# Altium footprint library seeed.PcbLib: 46 footprints (part 1 of 3)
Each footprint in its own frame and in the unit in brackets; x right, y up, seen from the top. Pads: shape width x height; smd on the part's side, far side on the other; paste and mask are expansions set on the pad; w line width, h text height; cw(c..) or ccw(c..) is an arc to the next point about the centre after c.
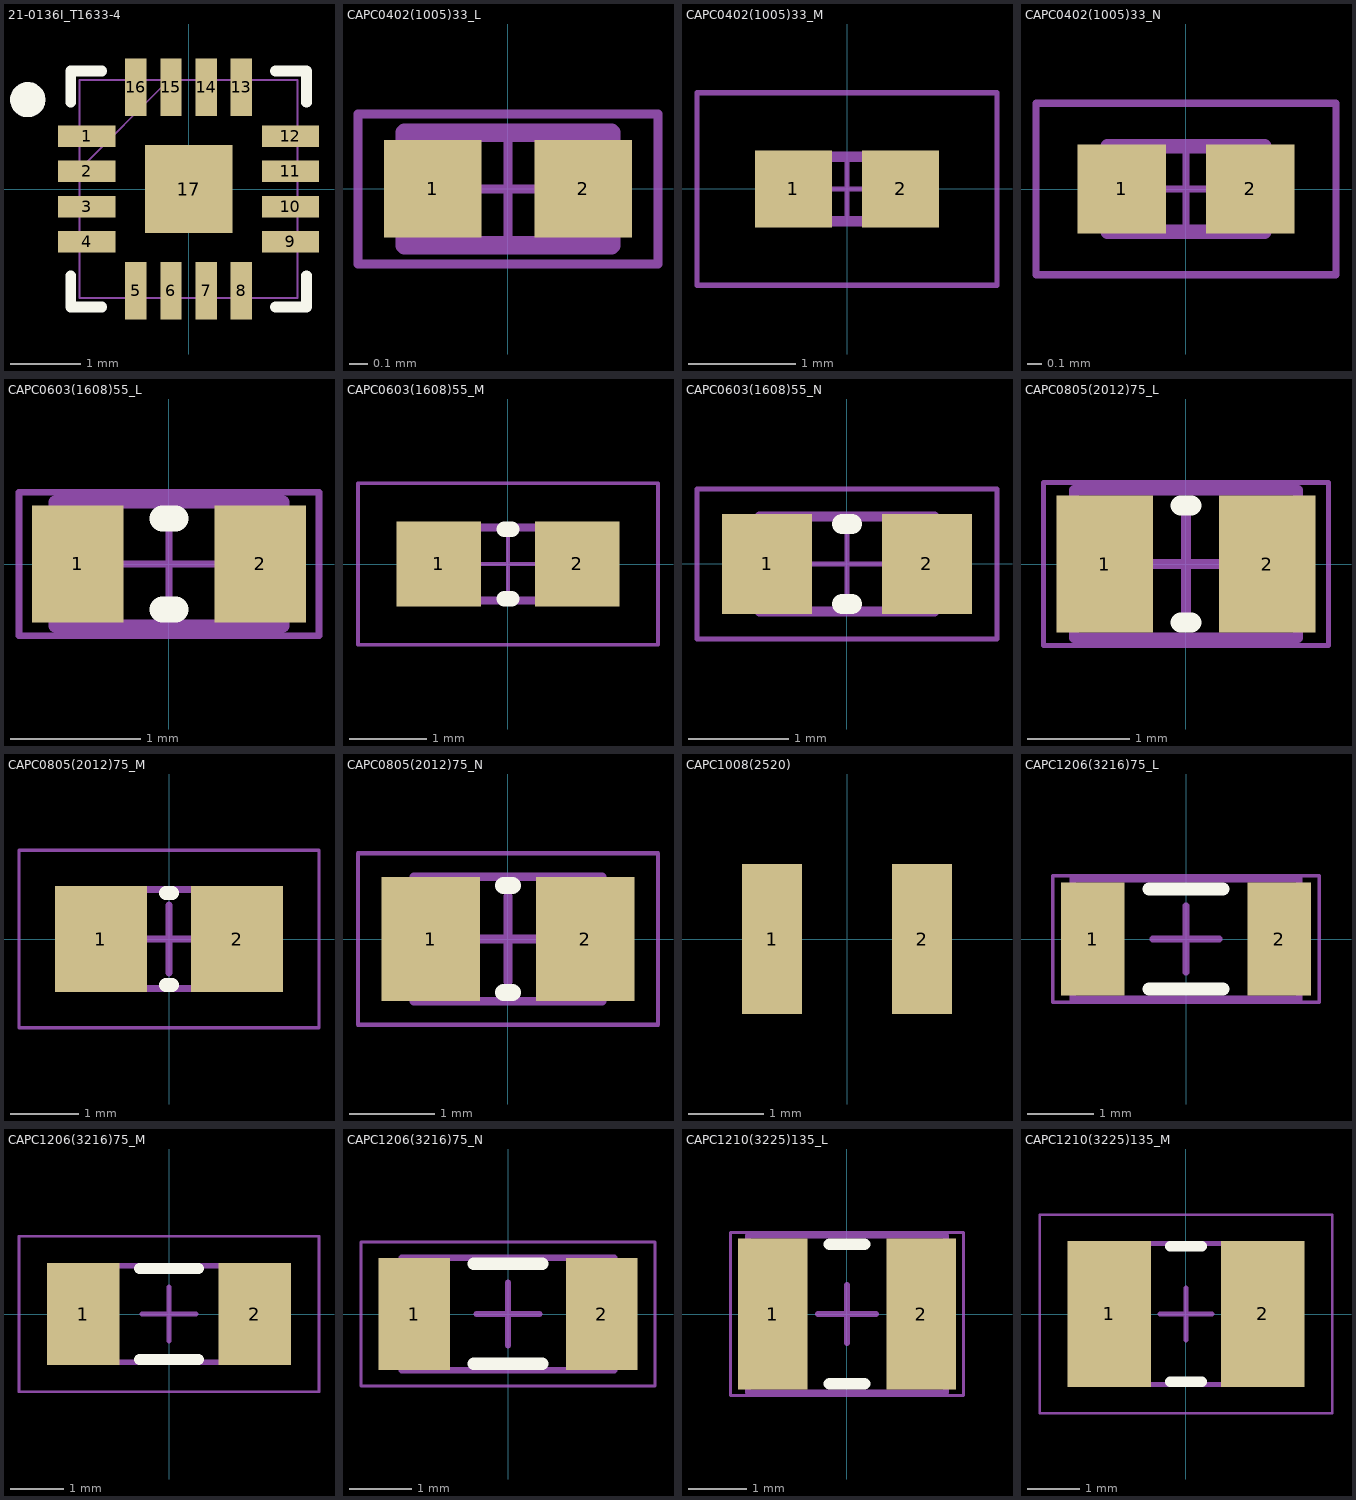
[diagram p0: the footprints below, top view; thin cyan lines are the x and y axes]

## 21-0136I_T1633-4 [mil]
pads (17):
  rect 32x12 smd paste+0 mask+0: 1(-57,29.53) 2(-57,9.84) 3(-57,-9.84) 4(-57,-29.53) 9(57,-29.53) 10(57,-9.84) 11(57,9.84) 12(57,29.53)
  rect 12x32 smd paste+0 mask+0: 5(-29.53,-57) 6(-9.84,-57) 7(9.84,-57) 8(29.53,-57) 13(29.53,57) 14(9.84,57) 15(-9.84,57) 16(-29.53,57)
  rect 49x49 smd paste-24 mask+0: 17(0,0)
Top Overlay:
  circle w9.84: c-90,50 r4.92
  lines w6: -66,-48.63 -66,-66 -48.63,-66 ; -66,48.63 -66,66 -48.63,66 ; 48.63,-66 66,-66 66,-48.63 ; 48.63,66 66,66 66,48.63
Top Paste:
  region: 24.5,24.5 -24.5,24.5 -24.5,-24.5 24.5,-24.5
Mechanical 13:
  lines w1: -61,11 -11,61 ; -61,-61 61,-61 61,61 -61,61 -61,-61 ; -61,-35.53 -61,-23.53 -61,-35.53 ; -61,-15.84 -61,-3.84 -61,-15.84 ; -61,3.84 -61,15.84 -61,3.84 ; -61,23.53 -61,35.53 -61,23.53 ; -35.53,-61 -23.53,-61 -35.53,-61 ; -35.53,61 -23.53,61 -35.53,61 ; -15.84,-61 -3.84,-61 -15.84,-61 ; -15.84,61 -3.84,61 -15.84,61 ; 3.84,-61 15.84,-61 3.84,-61 ; 3.84,61 15.84,61 3.84,61 ; 23.53,-61 35.53,-61 23.53,-61 ; 23.53,61 35.53,61 23.53,61 ; 61,-35.53 61,-23.53 61,-35.53 ; 61,-15.84 61,-3.84 61,-15.84 ; 61,3.84 61,15.84 61,3.84 ; 61,23.53 61,35.53 61,23.53
3D body: height 10, standoff 0, extent 0,0 10,10
3D body "21-0136I_T1633-4.step": height 32.09, standoff 0, extent -60.98,-60.98 60.99,60.99

## CAPC0402(1005)33_L [mm] "Chip Capacitor, Body 1.0x0.5mm, Height 0.33mm, IPC High Density"
height 0.33
pads (2):
  rect 0.52x0.52 smd mask+0.05: 1(-0.4,0) 2(0.4,0)
Mechanical 13:
  lines w0.1: -0.55,-0.3 -0.55,0.3 0.55,0.3 0.55,-0.3 -0.55,-0.3
Mechanical 15:
  lines w0.05: -0.3,0 0.3,0 ; 0,-0.3 0,0.3 ; -0.8,-0.4 -0.8,0.4 0.8,0.4 0.8,-0.4 -0.8,-0.4
3D body "CAPC-0402-T0.55-BN.stp": height 0.55, standoff 0, extent -0.525,-0.275 0.525,0.275

## CAPC0402(1005)33_M [mm] "Chip Capacitor, Body 1.0x0.5mm, Height 0.33mm, IPC Low Density"
height 0.33
pads (2):
  rect 0.72x0.72 smd: 1(-0.5,0) 2(0.5,0)
Mechanical 13:
  lines w0.1: -0.55,-0.3 0.55,-0.3 0.55,0.3 -0.55,0.3 -0.55,-0.3
Mechanical 15:
  lines w0.05: -0.3,0 0.3,0 ; 0,-0.3 0,0.3 ; -1.4,-0.9 1.4,-0.9 1.4,0.9 -1.4,0.9 -1.4,-0.9
3D body "CAPC-0402-T0.55-BN.stp": height 0.55, standoff 0, extent -0.525,-0.275 0.525,0.275

## CAPC0402(1005)33_N [mm] "Chip Capacitor, Body 1.0x0.5mm, Height 0.33mm, IPC Medium Density"
height 0.33
pads (2):
  rect 0.62x0.62 smd: 1(-0.45,0) 2(0.45,0)
Mechanical 13:
  lines w0.1: -0.55,-0.3 -0.55,0.3 0.55,0.3 0.55,-0.3 -0.55,-0.3
Mechanical 15:
  lines w0.05: -0.3,0 0.3,0 ; 0,-0.3 0,0.3 ; -1.05,-0.6 -1.05,0.6 1.05,0.6 1.05,-0.6 -1.05,-0.6
3D body "CAPC-0402-T0.55-BN.stp": height 0.55, standoff 0, extent -0.525,-0.275 0.525,0.275

## CAPC0603(1608)55_L [mm] "Chip Capacitor, Body 1.6x0.8mm, Height 0.55mm, IPC High Density"
height 0.55
pads (2):
  rect 0.7x0.9 smd: 1(-0.7,0) 2(0.7,0)
Top Overlay:
  lines w0.2: -0.05,-0.35 0.05,-0.35 ; -0.05,0.35 0.05,0.35
Mechanical 13:
  lines w0.1: -0.875,-0.475 -0.875,0.475 0.875,0.475 0.875,-0.475 -0.875,-0.475
Mechanical 15:
  lines w0.05: -0.475,0 0.475,0 ; 0,-0.475 0,0.475 ; -1.15,-0.55 -1.15,0.55 1.15,0.55 1.15,-0.55 -1.15,-0.55
3D body "CAPC-0603-T0.9-BN.stp": height 0.9, standoff 0, extent -0.85,-0.45 0.85,0.45

## CAPC0603(1608)55_M [mm] "Chip Capacitor, Body 1.6x0.8mm, Height 0.55mm, IPC Low Density"
height 0.55
pads (2):
  rect 1.1x1.1 smd: 1(-0.9,0) 2(0.9,0)
Top Overlay:
  lines w0.2: -0.05,-0.45 0.05,-0.45 ; -0.05,0.45 0.05,0.45
Mechanical 13:
  lines w0.1: -0.875,-0.475 0.875,-0.475 0.875,0.475 -0.875,0.475 -0.875,-0.475
Mechanical 15:
  lines w0.05: -0.475,0 0.475,0 ; 0,-0.475 0,0.475 ; -1.95,-1.05 1.95,-1.05 1.95,1.05 -1.95,1.05 -1.95,-1.05
3D body "CAPC-0603-T0.9-BN.stp": height 0.9, standoff 0, extent -0.85,-0.45 0.85,0.45

## CAPC0603(1608)55_N [mm] "Chip Capacitor, Body 1.6x0.8mm, Height 0.55mm, IPC Medium Density"
height 0.55
pads (2):
  rect 0.9x1 smd: 1(-0.8,0) 2(0.8,0)
Top Overlay:
  lines w0.2: -0.05,-0.4 0.05,-0.4 ; -0.05,0.4 0.05,0.4
Mechanical 13:
  lines w0.1: -0.875,-0.475 -0.875,0.475 0.875,0.475 0.875,-0.475 -0.875,-0.475
Mechanical 15:
  lines w0.05: -0.475,0 0.475,0 ; 0,-0.475 0,0.475 ; -1.5,-0.75 -1.5,0.75 1.5,0.75 1.5,-0.75 -1.5,-0.75
3D body "CAPC-0603-T0.9-BN.stp": height 0.9, standoff 0, extent -0.85,-0.45 0.85,0.45

## CAPC0805(2012)75_L [mm] "Chip Capacitor, Body 2.0x1.2mm, Height 0.75mm, IPC High Density"
height 0.75
pads (2):
  rect 0.95x1.35 smd: 1(-0.8,0) 2(0.8,0)
Top Overlay:
  lines w0.2: -0.05,-0.575 0.05,-0.575 ; -0.05,0.575 0.05,0.575
Mechanical 13:
  lines w0.1: -1.1,-0.725 -1.1,0.725 1.1,0.725 1.1,-0.725 -1.1,-0.725
Mechanical 15:
  lines w0.05: -1.4,-0.8 -1.4,0.8 1.4,0.8 1.4,-0.8 -1.4,-0.8
  lines w0.1: -0.5,0 0.5,0 ; 0,-0.5 0,0.5
3D body "CAPC-0805-T0.75-BN.stp": height 0.75, standoff 0, extent -1.05,-0.675 1.05,0.675

## CAPC0805(2012)75_M [mm] "Chip Capacitor, Body 2.0x1.2mm, Height 0.75mm, IPC Low Density"
height 0.75
pads (2):
  rect 1.35x1.55 smd: 1(-1,0) 2(1,0)
Top Overlay:
  lines w0.2: -0.05,-0.675 0.05,-0.675 ; -0.05,0.675 0.05,0.675
Mechanical 13:
  lines w0.1: -1.1,-0.725 -1.1,0.725 1.1,0.725 1.1,-0.725 -1.1,-0.725
Mechanical 15:
  lines w0.05: -2.2,-1.3 -2.2,1.3 2.2,1.3 2.2,-1.3 -2.2,-1.3
  lines w0.1: -0.5,0 0.5,0 ; 0,-0.5 0,0.5
3D body "CAPC-0805-T0.75-BN.stp": height 0.75, standoff 0, extent -1.05,-0.675 1.05,0.675

## CAPC0805(2012)75_N [mm] "Chip Capacitor, Body 2.0x1.2mm, Height 0.75mm, IPC Medium Density"
height 0.75
pads (2):
  rect 1.15x1.45 smd: 1(-0.9,0) 2(0.9,0)
Top Overlay:
  lines w0.2: -0.05,-0.625 0.05,-0.625 ; -0.05,0.625 0.05,0.625
Mechanical 13:
  lines w0.1: -1.1,-0.725 1.1,-0.725 1.1,0.725 -1.1,0.725 -1.1,-0.725
Mechanical 15:
  lines w0.05: -1.75,-1 1.75,-1 1.75,1 -1.75,1 -1.75,-1
  lines w0.1: -0.5,0 0.5,0 ; 0,-0.5 0,0.5
3D body "CAPC-0805-T0.75-BN.stp": height 0.75, standoff 0, extent -1.05,-0.675 1.05,0.675

## CAPC1008(2520) [mm] "1008"
height 1.2
pads (2):
  rect 0.8x2 smd: 1(-1,0) 2(1,0)
3D body: height 1.6, standoff 0, extent -1.25,-1 1.25,1

## CAPC1206(3216)75_L [mm] "Chip Capacitor, Body 3.2x1.6mm, Height 0.75mm, IPC High Density"
height 0.75
pads (2):
  rect 0.95x1.7 smd: 1(-1.4,0) 2(1.4,0)
Top Overlay:
  lines w0.2: -0.55,-0.75 0.55,-0.75 ; -0.55,0.75 0.55,0.75
Mechanical 13:
  lines w0.1: -1.7,-0.9 -1.7,0.9 1.7,0.9 1.7,-0.9 -1.7,-0.9
Mechanical 15:
  lines w0.05: -2,-0.95 -2,0.95 2,0.95 2,-0.95 -2,-0.95
  lines w0.1: -0.5,0 0.5,0 ; 0,-0.5 0,0.5
3D body "CAPC-1206-T1.0-BN.stp": height 1, standoff 0, extent -1.675,-0.875 1.675,0.875

## CAPC1206(3216)75_M [mm] "Chip Capacitor, Body 3.2x1.6mm, Height 0.75mm, IPC Low Density"
height 0.75
pads (2):
  rect 1.35x1.9 smd: 1(-1.6,0) 2(1.6,0)
Top Overlay:
  lines w0.2: -0.55,-0.85 0.55,-0.85 ; -0.55,0.85 0.55,0.85
Mechanical 13:
  lines w0.1: -1.7,-0.9 1.7,-0.9 1.7,0.9 -1.7,0.9 -1.7,-0.9
Mechanical 15:
  lines w0.05: -2.8,-1.45 2.8,-1.45 2.8,1.45 -2.8,1.45 -2.8,-1.45
  lines w0.1: -0.5,0 0.5,0 ; 0,-0.5 0,0.5
3D body "CAPC-1206-T1.0-BN.stp": height 1, standoff 0, extent -1.675,-0.875 1.675,0.875

## CAPC1206(3216)75_N [mm] "Chip Capacitor, Body 3.2x1.6mm, Height 0.75mm, IPC Medium Density"
height 0.75
pads (2):
  rect 1.15x1.8 smd: 1(-1.5,0) 2(1.5,0)
Top Overlay:
  lines w0.2: -0.55,-0.8 0.55,-0.8 ; -0.55,0.8 0.55,0.8
Mechanical 13:
  lines w0.1: -1.7,-0.9 -1.7,0.9 1.7,0.9 1.7,-0.9 -1.7,-0.9
Mechanical 15:
  lines w0.05: -2.35,-1.15 -2.35,1.15 2.35,1.15 2.35,-1.15 -2.35,-1.15
  lines w0.1: -0.5,0 0.5,0 ; 0,-0.5 0,0.5
3D body "CAPC-1206-T1.0-BN.stp": height 1, standoff 0, extent -1.675,-0.875 1.675,0.875

## CAPC1210(3225)135_L [mm] "Chip Capacitor, Body 3.2x2.5mm, Height 1.35mm, IPC High Density"
height 1.35
pads (2):
  rect 1.2x2.6 smd: 1(-1.275,0) 2(1.275,0)
Top Overlay:
  lines w0.2: -0.3,-1.2 0.3,-1.2 ; -0.3,1.2 0.3,1.2
Mechanical 13:
  lines w0.1: -1.7,-1.35 -1.7,1.35 1.7,1.35 1.7,-1.35 -1.7,-1.35
Mechanical 15:
  lines w0.05: -2,-1.4 -2,1.4 2,1.4 2,-1.4 -2,-1.4
  lines w0.1: -0.5,0 0.5,0 ; 0,-0.5 0,0.5
3D body: height 1.35, standoff 0, extent -0.95,-1.35 0.95,1.35
3D body: height 1.35, standoff 0, extent -1.7,-1.35 -0.95,1.35
3D body: height 1.35, standoff 0, extent 0.95,-1.35 1.7,1.35

## CAPC1210(3225)135_M [mm] "Chip Capacitor, Body 3.2x2.5mm, Height 1.35mm, IPC Low Density"
height 1.35
pads (2):
  rect 1.6x2.8 smd: 1(-1.475,0) 2(1.475,0)
Top Overlay:
  lines w0.2: -0.3,-1.3 0.3,-1.3 ; -0.3,1.3 0.3,1.3
Mechanical 13:
  lines w0.1: -1.7,-1.35 1.7,-1.35 1.7,1.35 -1.7,1.35 -1.7,-1.35
Mechanical 15:
  lines w0.05: -2.8,-1.9 2.8,-1.9 2.8,1.9 -2.8,1.9 -2.8,-1.9
  lines w0.1: -0.5,0 0.5,0 ; 0,-0.5 0,0.5
3D body: height 1.35, standoff 0, extent 0.95,-1.35 1.7,1.35
3D body: height 1.35, standoff 0, extent -1.7,-1.35 -0.95,1.35
3D body: height 1.35, standoff 0, extent -0.95,-1.35 0.95,1.35